# EAGLE library part SWITCH_DOUBLE (library __MyCommonLib1)
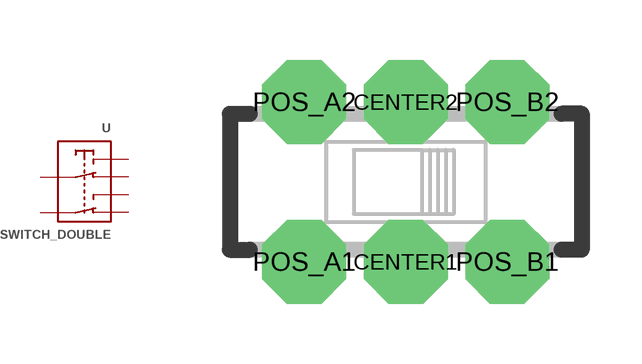
[diagram p8: symbol with the pads of SWITCH_DOUBLE_2.54X4.0MM; footprint SWITCH_DOUBLE_2.54X4.0MM]

Designator prefix -

## SWITCH_DOUBLE(2.54X4MM)  [SWITCH_DOUBLE_2.54X4.0MM]
CENTER1  CENTER1
CENTER2  CENTER2
POS_A1  POS_A1
POS_A2  POS_A2
POS_B1  POS_B1
POS_B2  POS_B2

## Footprint SWITCH_DOUBLE_2.54X4.0MM (pad centres in mm)
drill 0.8 pad 2.1 octagon: CENTER1 0,-2; CENTER2 0,2; POS_A1 -2.54,-2; POS_A2 -2.54,2; POS_B1 2.54,-2; POS_B2 2.54,2